# EAGLE library part DF20F-20DP-1V(56) (library wicker)
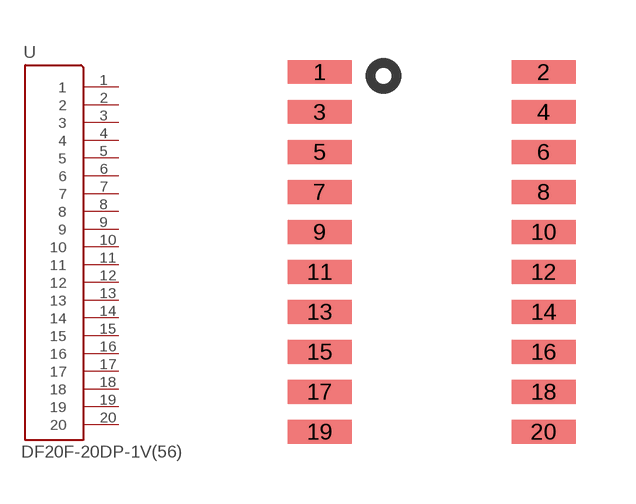
[diagram p4: symbol with the pads of DF20F-20DP; footprint DF20F-20DP]

Designator prefix -

## DF20F-20DP-1V(56)  [DF20F-20DP]
1  1
2  2
3  3
4  4
5  5
6  6
7  7
8  8
9  9
10  10
11  11
12  12
13  13
14  14
15  15
16  16
17  17
18  18
19  19
20  20

## Footprint DF20F-20DP (pad centres in mm)
smd 1.6 x 0.6: 1 -2.6,4.5; 2 3,4.5; 3 -2.6,3.5; 4 3,3.5; 5 -2.6,2.5; 6 3,2.5; 7 -2.6,1.5; 8 3,1.5; 9 -2.6,0.5; 10 3,0.5; 11 -2.6,-0.5; 12 3,-0.5; 13 -2.6,-1.5; 14 3,-1.5; 15 -2.6,-2.5; 16 3,-2.5; 17 -2.6,-3.5; 18 3,-3.5; 19 -2.6,-4.5; 20 3,-4.5